# Altium footprint library DIP6_surface mount.PcbLib: 1 footprints
Each footprint in its own frame and in the unit in brackets; x right, y up, seen from the top. Pads: shape width x height; smd on the part's side, far side on the other; paste and mask are expansions set on the pad; w line width, h text height; cw(c..) or ccw(c..) is an arc to the next point about the centre after c.
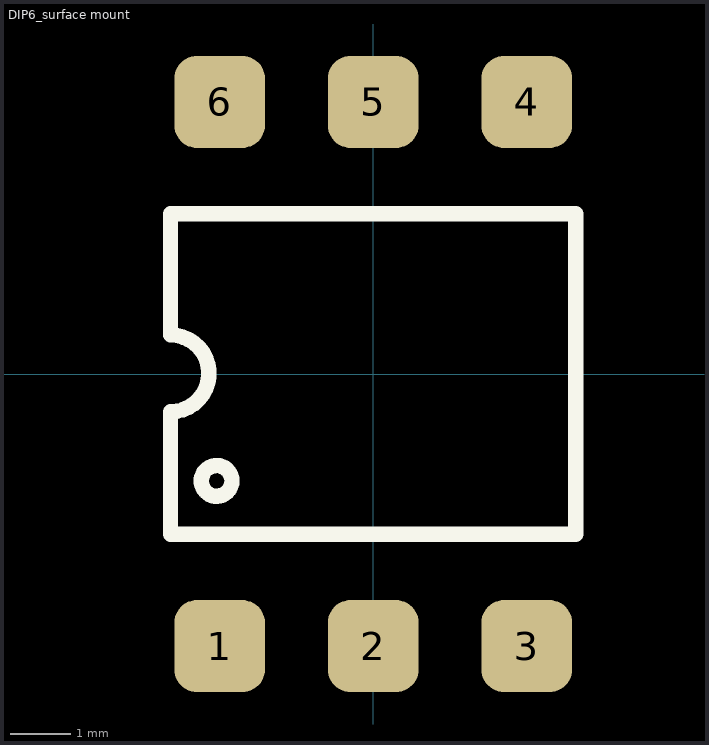
[diagram p0: the footprint, top view; thin cyan lines are the x and y axes]

## DIP6_surface mount [mm]
pads (6):
  rrect50% 1.5x1.524 smd: 1(-2.54,-4.5) 2(0,-4.5) 3(2.54,-4.5) 4(2.54,4.5) 5(0,4.5) 6(-2.54,4.5)
Top Overlay:
  circle w0.254: c-2.59,-1.768 r0.254
  lines w0.254: -3.352,-2.65 -3.352,-0.625 ccw(c-3.352,0.01) -3.352,0.645 -3.352,2.65 3.352,2.65 3.352,-2.65 -3.352,-2.65
3D body "DIP-6-SMD.STEP": height 3.51, standoff -0.2, extent -3.65,-4.85 3.6,4.95